# EAGLE library part 74HC10N (library EW_IC_74_Logic)
3-input NAND. Category: Gates Manufacturer: Generic
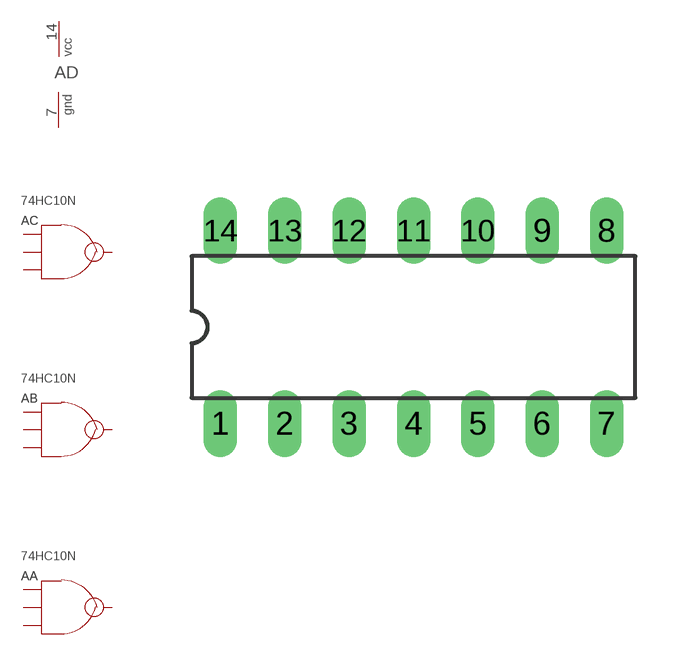
[diagram p164: symbol with the pads of DIL14; footprint DIL14]

Designator prefix A; gates A=NAND_3 B=NAND_3 C=NAND_3 D=PWRN

## 74HC10N  [DIL14]
1  A:A  pwr
2  A:B  pwr
3  B:A  pwr
4  B:B  pwr
5  B:C  pwr
6  B:Y  pwr
7  D:GND  pwr
8  C:Y  pwr
9  C:A  pwr
10  C:B  pwr
11  C:C  pwr
12  A:Y  pwr
13  A:C  pwr
14  D:VCC  pwr

## Footprint DIL14 (pad centres in mm)
SOCKET Dual In Line
drill 0.813 long: 1 -7.62,-3.81; 2 -5.08,-3.81; 3 -2.54,-3.81; 4 0,-3.81; 5 2.54,-3.81; 6 5.08,-3.81; 7 7.62,-3.81; 8 7.62,3.81; 9 5.08,3.81; 10 2.54,3.81; 11 0,3.81; 12 -2.54,3.81; 13 -5.08,3.81; 14 -7.62,3.81